# EAGLE library part SWD_PTH_SHROUD (library jonsowman)
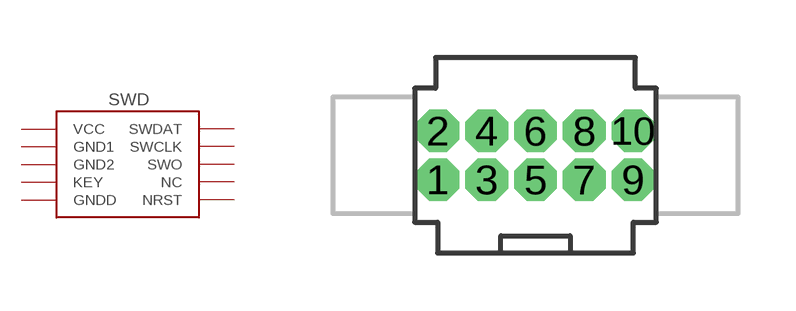
[diagram p14: symbol with the pads of SWD_PTH_SHROUD; footprint SWD_PTH_SHROUD]

Designator prefix H

## SWD_PTH_SHROUD  [SWD_PTH_SHROUD]
1  VCC  pwr
2  SWDAT
3  GND1  pwr
4  SWCLK
5  GND2  pwr
6  SWO
7  KEY
8  NC  nc
9  GNDD  pwr
10  NRST

## Footprint SWD_PTH_SHROUD (pad centres in mm)
drill 0.6 octagon: 1 -2.54,-0.635; 2 -2.54,0.635; 3 -1.27,-0.635; 4 -1.27,0.635; 5 0,-0.635; 6 0,0.635; 7 1.27,-0.635; 8 1.27,0.635; 9 2.54,-0.635; 10 2.54,0.635